# EAGLE library part 61802525023 (library InputOutputIO (rev19a))
WR-DSUB Male PCB Connector, 25 Pins=>Code : Con_I-O_DSUB_PCB_Male_61802525023 <http://katalog.we-online.de/media/images/eican/Con_I-O_DSUB_PCB_Male_6180xx25023_pf2.jpg> Details see: http://katalog.we-online.de/en/em/DSUB_MALE_PCB_CONNECTOR_6180XX25023 Created 2014-07-10, Karrer Zheng 2014 (C) Würth Elektronik
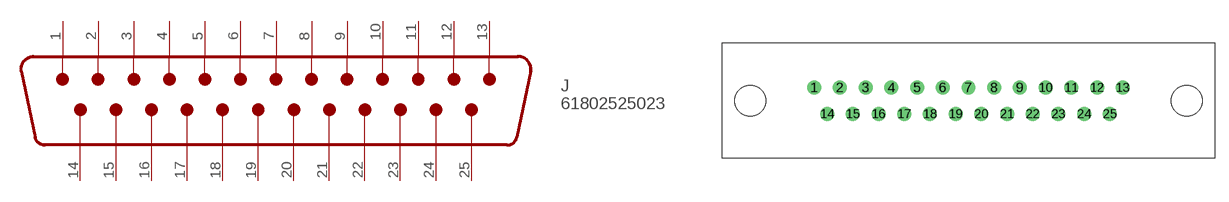
[diagram p2: symbol with the pads of 61802525023; footprint 61802525023]

Designator prefix J

## 61802525023  [61802525023]
1  1
2  2
3  3
4  4
5  5
6  6
7  7
8  8
9  9
10  10
11  11
12  12
13  13
14  14
15  15
16  16
17  17
18  18
19  19
20  20
21  21
22  22
23  23
24  24
25  25

## Footprint 61802525023 (pad centres in mm)
WR-DSUB Male PCB Connector, 25 Pins
drill 1: 1 -16.62,1.42; 2 -13.85,1.42; 3 -11.08,1.42; 4 -8.31,1.42; 5 -5.54,1.42; 6 -2.77,1.42; 7 0,1.42; 8 2.77,1.42; 9 5.54,1.42; 10 8.31,1.42; 11 11.08,1.42; 12 13.85,1.42; 13 16.62,1.42; 14 -15.235,-1.42; 15 -12.465,-1.42; 16 -9.695,-1.42; 17 -6.925,-1.42; 18 -4.155,-1.42; 19 -1.385,-1.42; 20 1.385,-1.42; 21 4.155,-1.42; 22 6.925,-1.42; 23 9.695,-1.42; 24 12.465,-1.42; 25 15.235,-1.42
hole 3.3 at -23.52,0
hole 3.3 at 23.52,0